# Altium footprint library Предохранители.PcbLib: 5 footprints
Each footprint in its own frame and in the unit in brackets; x right, y up, seen from the top. Pads: shape width x height; smd on the part's side, far side on the other; paste and mask are expansions set on the pad; w line width, h text height; cw(c..) or ccw(c..) is an arc to the next point about the centre after c.
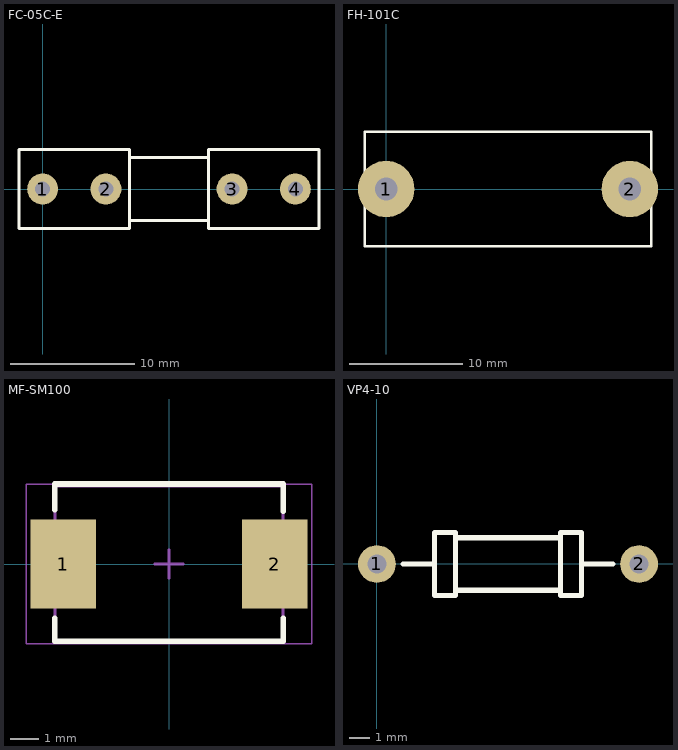
[diagram p0: the footprints below, top view; thin cyan lines are the x and y axes]

## FC-05C-E [mm]
pads (4):
  round 2.5 hole 1.2: 1(0,0) 2(5.08,0) 3(15.24,0) 4(20.32,0)
Top Overlay:
  lines w0.254: 6.985,-2.54 13.335,-2.54 ; 6.985,2.54 13.335,2.54 ; -1.905,-3.175 -1.905,3.175 6.985,3.175 6.985,-3.175 -1.905,-3.175 ; 13.335,-3.175 13.335,3.175 22.225,3.175 22.225,-3.175 13.335,-3.175

## FH-101C [mm]
pads (2):
  round 5 hole 2: 1(0,0) 2(21.59,0)
Top Overlay:
  lines w0.254: -1.905,-5.08 23.495,-5.08 23.495,5.08 -1.905,5.08 -1.905,-5.08

## MF-SM100 [mm] "Самовосстанавливающийся предохранитель"
height 3
pads (2):
  rect 2.3x3.1 smd: 1(-3.7,0) 2(3.7,0)
Top Overlay:
  lines w0.2: -4,-1.9 -4,-2.7 4,-2.7 4,-1.9 ; -4,1.9 -4,2.8 4,2.8 ; 4,1.85 4,2.75
Mechanical 13:
  lines w0.1: -3.99,-2.72 3.99,-2.72 3.99,2.72 -3.99,2.72 -3.99,-2.72
Mechanical 15:
  lines w0.05: -5,-2.8 5,-2.8 5,2.8 -5,2.8 -5,-2.8
  lines w0.1: -0.5,0 0.5,0 ; 0,-0.5 0,0.5
3D body "User Library-MF-SM100.SLDPRT": height 4, standoff 0, extent -3.75,-2.5 3.75,2.5

## PCBComponent_1 [mm]

## VP4-10 [mm]
pads (2):
  round 1.8 hole 0.9: 1(0,0) 2(12.5,0)
Top Overlay:
  lines w0.254: 1.25,0 2.75,0 ; 3.75,-1.25 8.75,-1.25 ; 3.75,1.25 8.75,1.25 ; 9.75,0 11.25,0 ; 2.75,-1.5 2.75,1.5 3.75,1.5 3.75,-1.5 2.75,-1.5 ; 8.75,-1.5 8.75,1.5 9.75,1.5 9.75,-1.5 8.75,-1.5